# EAGLE library part PIC18F4*J53ML (library Microchip)
PIC18F47J53 Family High-Performance USB Microcontrollers with nanoWatt XLP Technology Source: Data sheet <http://ww1.microchip.com/downloads/en/DeviceDoc/39964B.pdf>
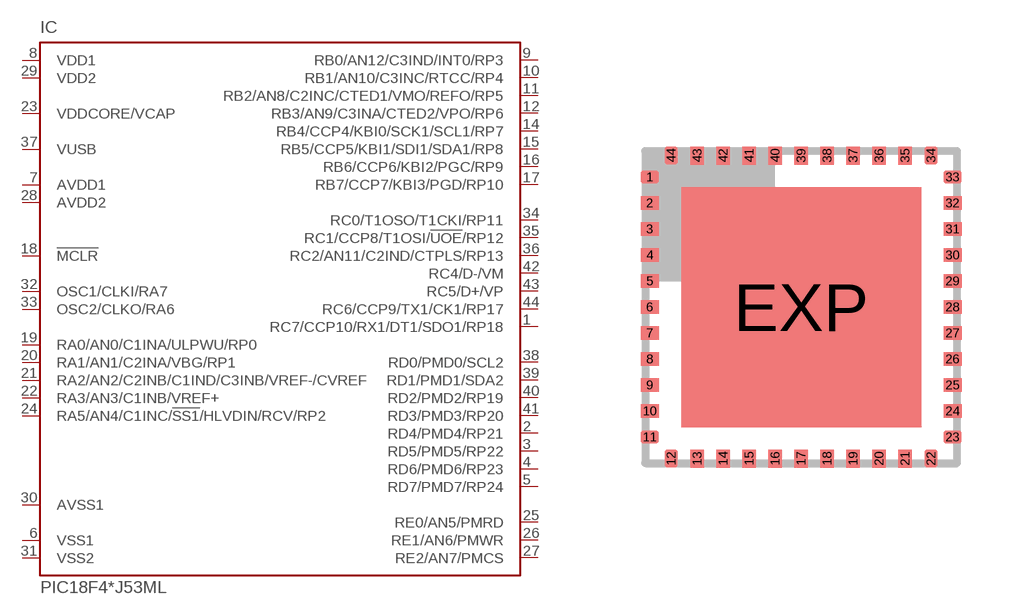
[diagram p137: symbol with the pads of QFN44ML8X8; footprint QFN44ML8X8]

Designator prefix IC

## PIC18F46J53ML (MPN: PIC18F46J53-I/ML; OC_FARNELL: unknown; OC_NEWARK: 63R7851), PIC18F47J53ML (MPN: PIC18F47J53-I/ML; OC_FARNELL: 1815000; OC_NEWARK: 63R7855)  [QFN44ML8X8]
1  RC7/CCP10/RX1/DT1/SDO1/RP18
2  RD4/PMD4/RP21
3  RD5/PMD5/RP22
4  RD6/PMD6/RP23
5  RD7/PMD7/RP24
6  VSS1  in
7  AVDD1  in
8  VDD1  in
9  RB0/AN12/C3IND/INT0/RP3
10  RB1/AN10/C3INC/RTCC/RP4
11  RB2/AN8/C2INC/CTED1/VMO/REFO/RP5
12  RB3/AN9/C3INA/CTED2/VPO/RP6
14  RB4/CCP4/KBI0/SCK1/SCL1/RP7
15  RB5/CCP5/KBI1/SDI1/SDA1/RP8
16  RB6/CCP6/KBI2/PGC/RP9
17  RB7/CCP7/KBI3/PGD/RP10
18  !MCLR  in
19  RA0/AN0/C1INA/ULPWU/RP0
20  RA1/AN1/C2INA/VBG/RP1
21  RA2/AN2/C2INB/C1IND/C3INB/VREF-/CVREF
22  RA3/AN3/C1INB/VREF+
23  VDDCORE/VCAP  in
24  RA5/AN4/C1INC/!SS1!/HLVDIN/RCV/RP2
25  RE0/AN5/PMRD
26  RE1/AN6/PMWR
27  RE2/AN7/PMCS
28  AVDD2  in
29  VDD2  in
30  AVSS1  in
31  VSS2  in
32  OSC1/CLKI/RA7
33  OSC2/CLKO/RA6
34  RC0/T1OSO/T1CKI/RP11
35  RC1/CCP8/T1OSI/!UOE!/RP12
36  RC2/AN11/C2IND/CTPLS/RP13
37  VUSB  in
38  RD0/PMD0/SCL2
39  RD1/PMD1/SDA2
40  RD2/PMD2/RP19
41  RD3/PMD3/RP20
42  RC4/D-/VM
43  RC5/D+/VP
44  RC6/CCP9/TX1/CK1/RP17

## Footprint QFN44ML8X8 (pad centres in mm)
44-Lead Plastic Quad Flat No Lead Package (ML) 8x8 mm Body (QFN) Source: http://ww1.microchip.com/downloads/en/devicedoc/39632c.pdf
smd 0.45 x 0.33: 1 -3.788,3.25; 2 -3.788,2.6; 3 -3.788,1.95; 4 -3.788,1.3; 5 -3.788,0.65; 6 -3.788,0; 7 -3.788,-0.65; 8 -3.788,-1.3; 9 -3.788,-1.95; 10 -3.788,-2.6; 11 -3.788,-3.25; 23 3.788,-3.25; 24 3.788,-2.6; 25 3.788,-1.95; 26 3.788,-1.3; 27 3.788,-0.65; 28 3.788,0; 29 3.788,0.65; 30 3.788,1.3; 31 3.788,1.95; 32 3.788,2.6; 33 3.788,3.25
smd 0.33 x 0.45: 12 -3.25,-3.788; 13 -2.6,-3.788; 14 -1.95,-3.788; 15 -1.3,-3.788; 16 -0.65,-3.788; 17 0,-3.788; 18 0.65,-3.788; 19 1.3,-3.788; 20 1.95,-3.788; 21 2.6,-3.788; 22 3.25,-3.788; 34 3.25,3.788; 35 2.6,3.788; 36 1.95,3.788; 37 1.3,3.788; 38 0.65,3.788; 39 0,3.788; 40 -0.65,3.788; 41 -1.3,3.788; 42 -1.95,3.788; 43 -2.6,3.788; 44 -3.25,3.788
smd 6 x 6: EXP 0,0